# Altium integrated library Linear Technology Power Management Battery Management.IntLib: 626 symbols (part 6 of 56)
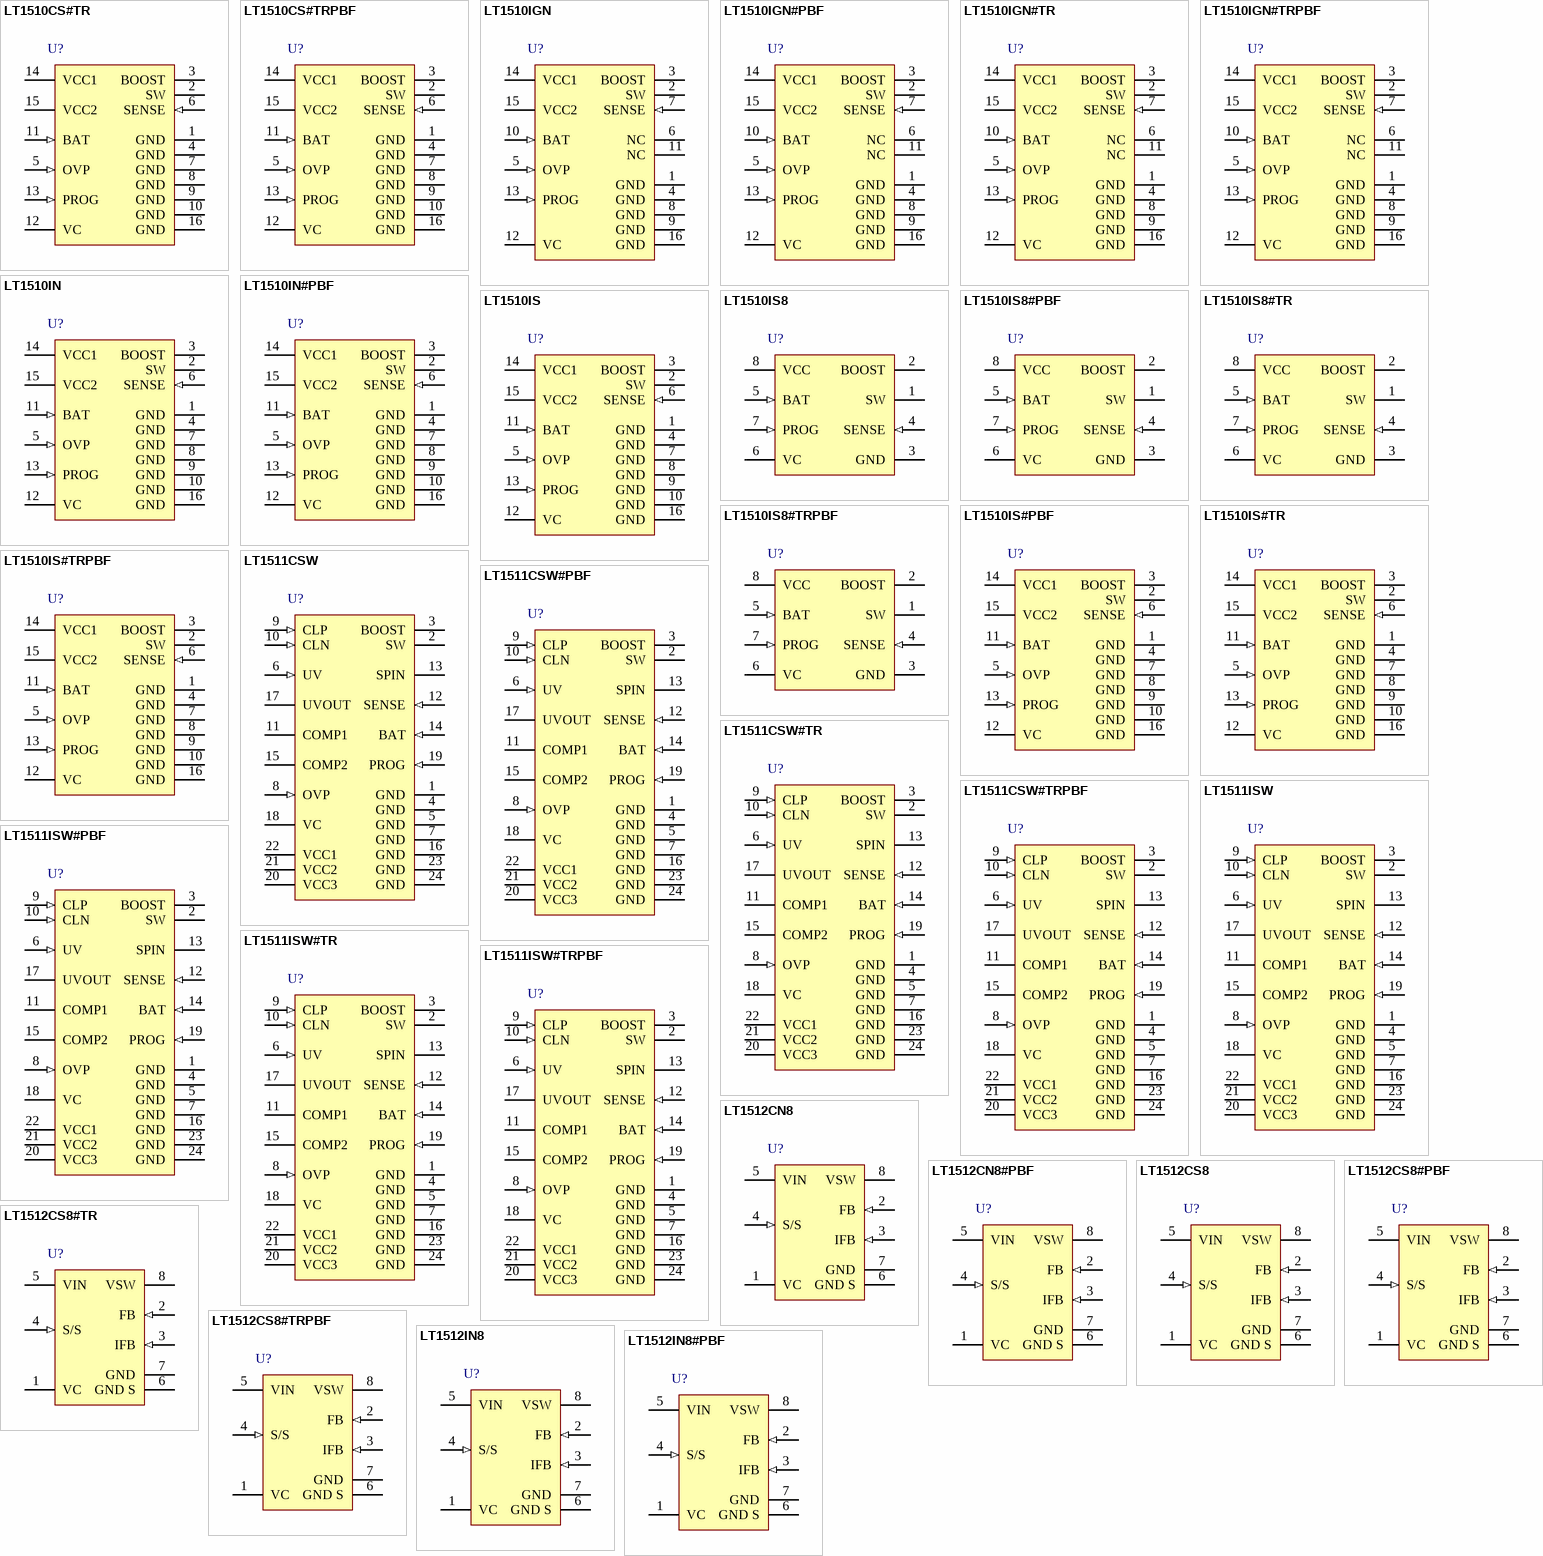
[diagram p27: symbols LT1510CS#TR to LT1512IN8#PBF]

## LT1512IN8#PBF
designator U?
SEPIC Constant-Current/ Constant-Voltage Battery Charger, 2.4 to 30 V Vin, 8-pin DIP (N8-8), -40 to 85 degC, Pb-Free; Manufacturer: Linear Technology; PartNumber: LT1512IN8#PBF; Battery Chemistry: Li-Ion, Li-Polymer, NiCd, NiMH, Lead Acid; Charge Termination: External; Float Voltage: Adj; Max Charge Current(A): 0.75; Number of Cells: 1 to 4 (Li), 1 to 12 (Ni); Type of Charger: Switching, Buck-Boost; Vin Max(V): 30; Vin Min(V): 2.4; DatasheetVersion: Rev. A; PackageVersion: Rev. I, 07/2011; PackageReference: N8-8; PackageDescription: 8-Pin PDIP, Body 10.16 x 6.48 mm, Pitch 2.54 mm; Supplier 1: Digi-Key; Supplier Part Number 1: LT1512IN8#PBF-ND; RoHS: TRUE; Mounting Technology: Through Hole; ComponentLink1Description: Manufacturer URL; ComponentLink1URL: http://www.linear.com/; ComponentLink2Description: Datasheet; ComponentLink2URL: http://cds.linear.com/docs/en/datasheet/1512fa.pdf; ComponentLink3Description: Package Specification; ComponentLink3URL: http://www.linear.com/docs/en/packaging/05081510_I_N8.pdf
footprint LT-N8-8 (DIP, 8-Leads, Body 10.15x6.85mm, Pitch 2.54mm)
pins: 1 VC "The compensation pin is primarily used for frequency compensation, but it can also be used for soft starting and current limiting. It is the output of the error amplifier and the input of the current comparator. Peak switch (See Datasheet)", 2 FB (in) "The feedback pin is used for positive output voltage sensing. This pin is the inverting input to the voltage error amplifier. The R1/R2 voltage divider connected to FB defines Li-Ion float voltage at full charge, or acts as (See Datasheet)", 3 IFB (in) "The current feedback pin is used to sense charging current. It is the input to a current sense amplifier that controls charging current when the battery voltage is below the programmed voltage. During constant-current (See Datasheet)", 4 S/S (in) "This pin can be used for shutdown and/or synchronization. It is logic level compatible, but can be tied to VIN if desired. It defaults to a high ON state when floated. A logic low state will shut down the charger to a (See Datasheet)", 5 VIN (power) "The input supply pin should be bypassed with a low ESR capacitor located right next to the IC chip. The grounded end of the capacitor must be connected directly to the ground plane to which the GND pin is connected", 6 GND S (power) "The LT1512 uses separate ground pins for switch current (GND) and the control circuitry (GND S). This isolates the control ground from any induced voltage created by fast switch currents. Both pins should be tied directly to (See Datasheet)", 7 GND (power) "The LT1512 uses separate ground pins for switch current (GND) and the control circuitry (GND S). This isolates the control ground from any induced voltage created by fast switch currents. Both pins should be tied directly to (See Datasheet)", 8 VSW (power) "The switch pin is the collector of the power switch, carrying up to 1.5A of current with fast rise and fall times. Keep the traces on this pin as short as possible to minimize radiation and voltage spikes. In particular, the (See Datasheet)"

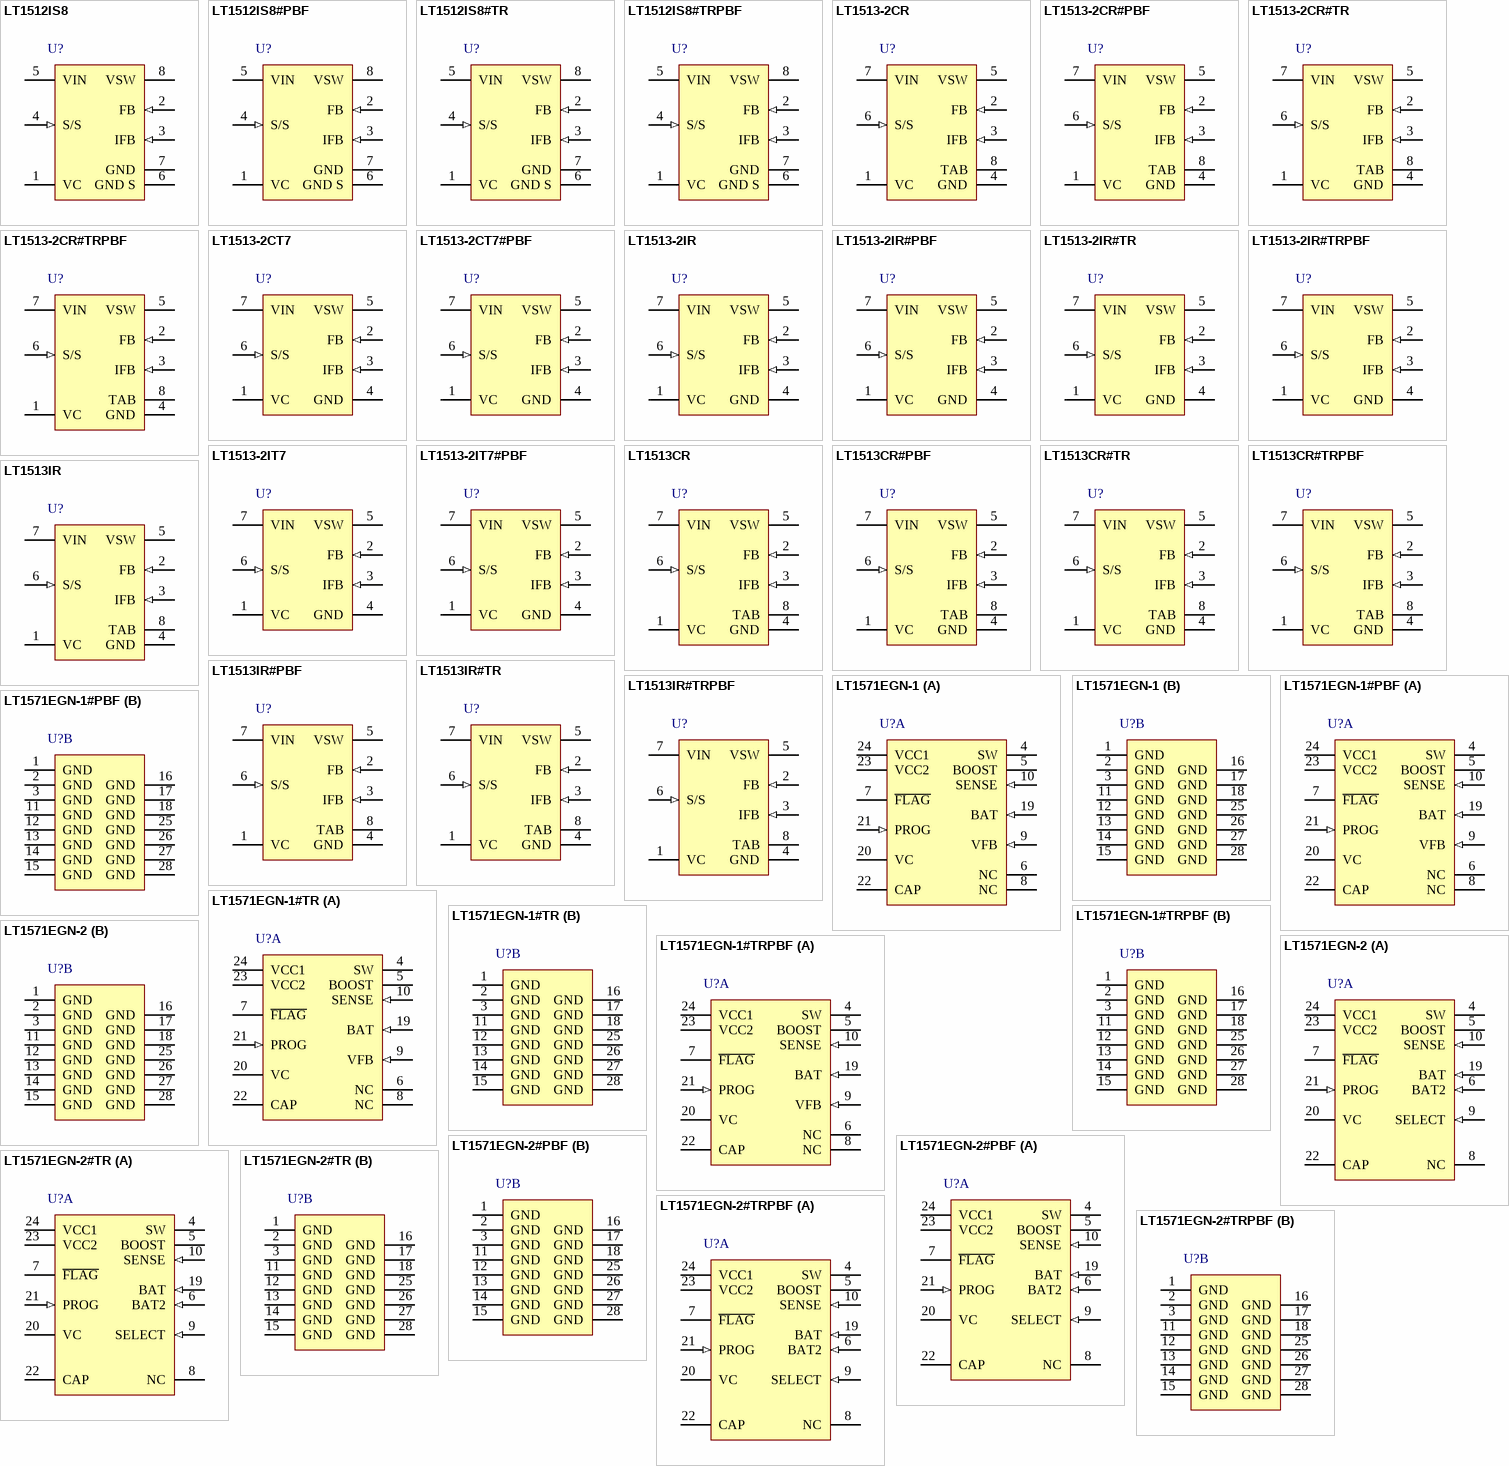
[diagram p2: symbols LT1512IS8 to LT1571EGN-2#TRPBF]

## LT1512IS8
designator U?
SEPIC Constant-Current/ Constant-Voltage Battery Charger, 2.4 to 30 V Vin, 8-pin SOIC (S8-8), -40 to 85 degC; Manufacturer: Linear Technology; PartNumber: LT1512IS8; Battery Chemistry: Li-Ion, Li-Polymer, NiCd, NiMH, Lead Acid; Charge Termination: External; Float Voltage: Adj; Max Charge Current(A): 0.75; Number of Cells: 1 to 4 (Li), 1 to 12 (Ni); Type of Charger: Switching, Buck-Boost; Vin Max(V): 30; Vin Min(V): 2.4; DatasheetVersion: Rev. A; PackageVersion: Rev. G, 03/2012; PackageReference: S8-8; PackageDescription: 8-Pin Plastic Small Outline (Narrow .150 Inch), Body 4.9 x 3.9 mm, Pitch 1.27 mm; Supplier 1: Digi-Key; Supplier Part Number 1: LT1512IS8-ND; Supplier 2: Newark; Supplier Part Number 2: 57M4713; RoHS: FALSE; Mounting Technology: Surface Mount; ComponentLink1Description: Manufacturer URL; ComponentLink1URL: http://www.linear.com/; ComponentLink2Description: Datasheet; ComponentLink2URL: http://cds.linear.com/docs/en/datasheet/1512fa.pdf; ComponentLink3Description: Package Specification; ComponentLink3URL: http://cds.linear.com/docs/en/packaging/05081610_G_SO8.pdf
footprint LT-S8-8_N (SOIC, 8-Leads, Body 5x4mm, Pitch 1.27mm, IPC Medium Density)
footprint LT-S8-8_L (SOIC, 8-Leads, Body 5x4mm, Pitch 1.27mm, IPC High Density)
footprint LT-S8-8_M (SOIC, 8-Leads, Body 5x4mm, Pitch 1.27mm, IPC Low Density)
pins: 1 VC "The compensation pin is primarily used for frequency compensation, but it can also be used for soft starting and current limiting. It is the output of the error amplifier and the input of the current comparator. Peak switch (See Datasheet)", 2 FB (in) "The feedback pin is used for positive output voltage sensing. This pin is the inverting input to the voltage error amplifier. The R1/R2 voltage divider connected to FB defines Li-Ion float voltage at full charge, or acts as (See Datasheet)", 3 IFB (in) "The current feedback pin is used to sense charging current. It is the input to a current sense amplifier that controls charging current when the battery voltage is below the programmed voltage. During constant-current (See Datasheet)", 4 S/S (in) "This pin can be used for shutdown and/or synchronization. It is logic level compatible, but can be tied to VIN if desired. It defaults to a high ON state when floated. A logic low state will shut down the charger to a (See Datasheet)", 5 VIN (power) "The input supply pin should be bypassed with a low ESR capacitor located right next to the IC chip. The grounded end of the capacitor must be connected directly to the ground plane to which the GND pin is connected", 6 GND S (power) "The LT1512 uses separate ground pins for switch current (GND) and the control circuitry (GND S). This isolates the control ground from any induced voltage created by fast switch currents. Both pins should be tied directly to (See Datasheet)", 7 GND (power) "The LT1512 uses separate ground pins for switch current (GND) and the control circuitry (GND S). This isolates the control ground from any induced voltage created by fast switch currents. Both pins should be tied directly to (See Datasheet)", 8 VSW (power) "The switch pin is the collector of the power switch, carrying up to 1.5A of current with fast rise and fall times. Keep the traces on this pin as short as possible to minimize radiation and voltage spikes. In particular, the (See Datasheet)"

## LT1512IS8#PBF
designator U?
SEPIC Constant-Current/ Constant-Voltage Battery Charger, 2.4 to 30 V Vin, 8-pin SOIC (S8-8), -40 to 85 degC, Pb-Free; Manufacturer: Linear Technology; PartNumber: LT1512IS8#PBF; Battery Chemistry: Li-Ion, Li-Polymer, NiCd, NiMH, Lead Acid; Charge Termination: External; Float Voltage: Adj; Max Charge Current(A): 0.75; Number of Cells: 1 to 4 (Li), 1 to 12 (Ni); Type of Charger: Switching, Buck-Boost; Vin Max(V): 30; Vin Min(V): 2.4; DatasheetVersion: Rev. A; PackageVersion: Rev. G, 03/2012; PackageReference: S8-8; PackageDescription: 8-Pin Plastic Small Outline (Narrow .150 Inch), Body 4.9 x 3.9 mm, Pitch 1.27 mm; Supplier 1: Digi-Key; Supplier Part Number 1: LT1512IS8#PBF-ND; Supplier 2: Farnell; Supplier Part Number 2: 2252794; Supplier 3: Newark; Supplier Part Number 3: 57M4714; RoHS: TRUE; Mounting Technology: Surface Mount; ComponentLink1Description: Manufacturer URL; ComponentLink1URL: http://www.linear.com/; ComponentLink2Description: Datasheet; ComponentLink2URL: http://cds.linear.com/docs/en/datasheet/1512fa.pdf; ComponentLink3Description: Package Specification; ComponentLink3URL: http://cds.linear.com/docs/en/packaging/05081610_G_SO8.pdf
footprint LT-S8-8_N (SOIC, 8-Leads, Body 5x4mm, Pitch 1.27mm, IPC Medium Density)
footprint LT-S8-8_L (SOIC, 8-Leads, Body 5x4mm, Pitch 1.27mm, IPC High Density)
footprint LT-S8-8_M (SOIC, 8-Leads, Body 5x4mm, Pitch 1.27mm, IPC Low Density)
pins: 1 VC "The compensation pin is primarily used for frequency compensation, but it can also be used for soft starting and current limiting. It is the output of the error amplifier and the input of the current comparator. Peak switch (See Datasheet)", 2 FB (in) "The feedback pin is used for positive output voltage sensing. This pin is the inverting input to the voltage error amplifier. The R1/R2 voltage divider connected to FB defines Li-Ion float voltage at full charge, or acts as (See Datasheet)", 3 IFB (in) "The current feedback pin is used to sense charging current. It is the input to a current sense amplifier that controls charging current when the battery voltage is below the programmed voltage. During constant-current (See Datasheet)", 4 S/S (in) "This pin can be used for shutdown and/or synchronization. It is logic level compatible, but can be tied to VIN if desired. It defaults to a high ON state when floated. A logic low state will shut down the charger to a (See Datasheet)", 5 VIN (power) "The input supply pin should be bypassed with a low ESR capacitor located right next to the IC chip. The grounded end of the capacitor must be connected directly to the ground plane to which the GND pin is connected", 6 GND S (power) "The LT1512 uses separate ground pins for switch current (GND) and the control circuitry (GND S). This isolates the control ground from any induced voltage created by fast switch currents. Both pins should be tied directly to (See Datasheet)", 7 GND (power) "The LT1512 uses separate ground pins for switch current (GND) and the control circuitry (GND S). This isolates the control ground from any induced voltage created by fast switch currents. Both pins should be tied directly to (See Datasheet)", 8 VSW (power) "The switch pin is the collector of the power switch, carrying up to 1.5A of current with fast rise and fall times. Keep the traces on this pin as short as possible to minimize radiation and voltage spikes. In particular, the (See Datasheet)"

## LT1512IS8#TR
designator U?
SEPIC Constant-Current/ Constant-Voltage Battery Charger, 2.4 to 30 V Vin, 8-pin SOIC (S8-8), -40 to 85 degC, Tape and Reel; Manufacturer: Linear Technology; PartNumber: LT1512IS8#TR; Battery Chemistry: Li-Ion, Li-Polymer, NiCd, NiMH, Lead Acid; Charge Termination: External; Float Voltage: Adj; Max Charge Current(A): 0.75; Number of Cells: 1 to 4 (Li), 1 to 12 (Ni); Type of Charger: Switching, Buck-Boost; Vin Max(V): 30; Vin Min(V): 2.4; DatasheetVersion: Rev. A; PackageVersion: Rev. G, 03/2012; PackageReference: S8-8; PackageDescription: 8-Pin Plastic Small Outline (Narrow .150 Inch), Body 4.9 x 3.9 mm, Pitch 1.27 mm; Supplier 1: Digi-Key; Supplier Part Number 1: LT1512IS8#TR-ND; Packing: Tape and Reel; RoHS: FALSE; Mounting Technology: Surface Mount; ComponentLink1Description: Manufacturer URL; ComponentLink1URL: http://www.linear.com/; ComponentLink2Description: Datasheet; ComponentLink2URL: http://cds.linear.com/docs/en/datasheet/1512fa.pdf; ComponentLink3Description: Package Specification; ComponentLink3URL: http://cds.linear.com/docs/en/packaging/05081610_G_SO8.pdf
footprint LT-S8-8_N (SOIC, 8-Leads, Body 5x4mm, Pitch 1.27mm, IPC Medium Density)
footprint LT-S8-8_L (SOIC, 8-Leads, Body 5x4mm, Pitch 1.27mm, IPC High Density)
footprint LT-S8-8_M (SOIC, 8-Leads, Body 5x4mm, Pitch 1.27mm, IPC Low Density)
pins: 1 VC "The compensation pin is primarily used for frequency compensation, but it can also be used for soft starting and current limiting. It is the output of the error amplifier and the input of the current comparator. Peak switch (See Datasheet)", 2 FB (in) "The feedback pin is used for positive output voltage sensing. This pin is the inverting input to the voltage error amplifier. The R1/R2 voltage divider connected to FB defines Li-Ion float voltage at full charge, or acts as (See Datasheet)", 3 IFB (in) "The current feedback pin is used to sense charging current. It is the input to a current sense amplifier that controls charging current when the battery voltage is below the programmed voltage. During constant-current (See Datasheet)", 4 S/S (in) "This pin can be used for shutdown and/or synchronization. It is logic level compatible, but can be tied to VIN if desired. It defaults to a high ON state when floated. A logic low state will shut down the charger to a (See Datasheet)", 5 VIN (power) "The input supply pin should be bypassed with a low ESR capacitor located right next to the IC chip. The grounded end of the capacitor must be connected directly to the ground plane to which the GND pin is connected", 6 GND S (power) "The LT1512 uses separate ground pins for switch current (GND) and the control circuitry (GND S). This isolates the control ground from any induced voltage created by fast switch currents. Both pins should be tied directly to (See Datasheet)", 7 GND (power) "The LT1512 uses separate ground pins for switch current (GND) and the control circuitry (GND S). This isolates the control ground from any induced voltage created by fast switch currents. Both pins should be tied directly to (See Datasheet)", 8 VSW (power) "The switch pin is the collector of the power switch, carrying up to 1.5A of current with fast rise and fall times. Keep the traces on this pin as short as possible to minimize radiation and voltage spikes. In particular, the (See Datasheet)"

## LT1512IS8#TRPBF
designator U?
SEPIC Constant-Current/ Constant-Voltage Battery Charger, 2.4 to 30 V Vin, 8-pin SOIC (S8-8), -40 to 85 degC, Pb-Free, Tape and Reel; Manufacturer: Linear Technology; PartNumber: LT1512IS8#TRPBF; Battery Chemistry: Li-Ion, Li-Polymer, NiCd, NiMH, Lead Acid; Charge Termination: External; Float Voltage: Adj; Max Charge Current(A): 0.75; Number of Cells: 1 to 4 (Li), 1 to 12 (Ni); Type of Charger: Switching, Buck-Boost; Vin Max(V): 30; Vin Min(V): 2.4; DatasheetVersion: Rev. A; PackageVersion: Rev. G, 03/2012; PackageReference: S8-8; PackageDescription: 8-Pin Plastic Small Outline (Narrow .150 Inch), Body 4.9 x 3.9 mm, Pitch 1.27 mm; Supplier 1: Digi-Key; Supplier Part Number 1: LT1512IS8#TRPBF-ND; Packing: Tape and Reel; RoHS: TRUE; Mounting Technology: Surface Mount; ComponentLink1Description: Manufacturer URL; ComponentLink1URL: http://www.linear.com/; ComponentLink2Description: Datasheet; ComponentLink2URL: http://cds.linear.com/docs/en/datasheet/1512fa.pdf; ComponentLink3Description: Package Specification; ComponentLink3URL: http://cds.linear.com/docs/en/packaging/05081610_G_SO8.pdf
footprint LT-S8-8_N (SOIC, 8-Leads, Body 5x4mm, Pitch 1.27mm, IPC Medium Density)
footprint LT-S8-8_L (SOIC, 8-Leads, Body 5x4mm, Pitch 1.27mm, IPC High Density)
footprint LT-S8-8_M (SOIC, 8-Leads, Body 5x4mm, Pitch 1.27mm, IPC Low Density)
pins: 1 VC "The compensation pin is primarily used for frequency compensation, but it can also be used for soft starting and current limiting. It is the output of the error amplifier and the input of the current comparator. Peak switch (See Datasheet)", 2 FB (in) "The feedback pin is used for positive output voltage sensing. This pin is the inverting input to the voltage error amplifier. The R1/R2 voltage divider connected to FB defines Li-Ion float voltage at full charge, or acts as (See Datasheet)", 3 IFB (in) "The current feedback pin is used to sense charging current. It is the input to a current sense amplifier that controls charging current when the battery voltage is below the programmed voltage. During constant-current (See Datasheet)", 4 S/S (in) "This pin can be used for shutdown and/or synchronization. It is logic level compatible, but can be tied to VIN if desired. It defaults to a high ON state when floated. A logic low state will shut down the charger to a (See Datasheet)", 5 VIN (power) "The input supply pin should be bypassed with a low ESR capacitor located right next to the IC chip. The grounded end of the capacitor must be connected directly to the ground plane to which the GND pin is connected", 6 GND S (power) "The LT1512 uses separate ground pins for switch current (GND) and the control circuitry (GND S). This isolates the control ground from any induced voltage created by fast switch currents. Both pins should be tied directly to (See Datasheet)", 7 GND (power) "The LT1512 uses separate ground pins for switch current (GND) and the control circuitry (GND S). This isolates the control ground from any induced voltage created by fast switch currents. Both pins should be tied directly to (See Datasheet)", 8 VSW (power) "The switch pin is the collector of the power switch, carrying up to 1.5A of current with fast rise and fall times. Keep the traces on this pin as short as possible to minimize radiation and voltage spikes. In particular, the (See Datasheet)"

## LT1513-2CR
designator U?
SEPIC Constant or Programmable-Current / Constant-Voltage Battery Charger, 2.4 to 30 V Vin, 7-pin DPAK (R-7), 0 to 125 degC; Manufacturer: Linear Technology; PartNumber: LT1513-2CR; Battery Chemistry: Li-Ion, Li-Polymer, NiCd, NiMH, Lead Acid; Charge Termination: External; Float Voltage: Adj; Max Charge Current(A): 2; Number of Cells: 1 to 4 (Li), 1 to 18 (Ni); Type of Charger: Switching, Buck-Boost; Vin Max(V): 30; Vin Min(V): 2.4; DatasheetVersion: Rev. A; PackageVersion: Rev. F, 05/2012; PackageReference: R-7; PackageDescription: 7-Pin Plastic DD Pak, Body 10.2235 x 8.89 mm, Pitch 1.27 mm; Supplier 1: Digi-Key; Supplier Part Number 1: LT1513-2CR-ND; Supplier 2: Newark; Supplier Part Number 2: 57M4717; RoHS: FALSE; Mounting Technology: Surface Mount; ComponentLink1Description: Manufacturer URL; ComponentLink1URL: http://www.linear.com/; ComponentLink2Description: Datasheet; ComponentLink2URL: http://cds.linear.com/docs/en/datasheet/1513fas.pdf; ComponentLink3Description: Package Specification; ComponentLink3URL: http://cds.linear.com/docs/en/packaging/05081462_F_R.pdf
footprint LT-R-7_N (DPAK, 7-Leads, Body 10.224x8.89mm, Pitch 1.27mm, IPC Medium Density)
footprint LT-R-7_L (DPAK, 7-Leads, Body 10.224x8.89mm, Pitch 1.27mm, IPC High Density)
footprint LT-R-7_M (DPAK, 7-Leads, Body 10.224x8.89mm, Pitch 1.27mm, IPC Low Density)
pins: 1 VC "The compensation pin is primarily used for frequency compensation, but it can also be used for soft starting and current limiting. It is the output of the error amplifier and the input of the current comparator. Peak switch (See Datasheet)", 2 FB (in) "The feedback pin is used for positive output voltage sensing. The R1/R2 voltage divider connected to FB defines Li-Ion float voltage at full charge, or acts as a voltage limiter for NiCd or NiMH applications. FB is the (See Datasheet)", 3 IFB (in) "The current feedback pin is used to sense charging current. It is the input to a current sense amplifier that controls charging current when the battery voltage is below a programmed limit. During constant-current operation, (See Datasheet)", 4 GND (power) "The ground pin is common to both control circuitry and switch current. VC, FB and S/S signals must be Kelvin and connected as close as possible to this pin. The TAB of the R package should also be connected to the power (See Datasheet)", 5 VSW (power) "The switch pin is the collector of the power switch, carrying up to 3A of current with fast rise and fall times. Keep the traces on this pin as short as possible to minimize radiation and voltage spikes. In particular, the (See Datasheet)", 6 S/S (in) "This pin can be used for shutdown and/or synchronization. It is logic level compatible, but can be tied to VIN if desired. It defaults to a high ON state when floated. A logic low state will shut down the charger to a (See Datasheet)", 7 VIN (power) "The input supply pin should be bypassed with a low ESR capacitor located right next to the IC chip. The grounded end of the capacitor must be connected directly to the ground plane to which the TAB is connected.", 8 TAB (power) "The TAB on the surface mount R package is electrically connected to the ground pin, but a low inductance connection must be made to both the TAB and the pin for proper circuit operation. See suggested PC layout in Figure 4."

## LT1513-2CR#PBF
designator U?
SEPIC Constant or Programmable-Current / Constant-Voltage Battery Charger, 2.4 to 30 V Vin, 7-pin DPAK (R-7), 0 to 125 degC, Pb-Free; Manufacturer: Linear Technology; PartNumber: LT1513-2CR#PBF; Battery Chemistry: Li-Ion, Li-Polymer, NiCd, NiMH, Lead Acid; Charge Termination: External; Float Voltage: Adj; Max Charge Current(A): 2; Number of Cells: 1 to 4 (Li), 1 to 18 (Ni); Type of Charger: Switching, Buck-Boost; Vin Max(V): 30; Vin Min(V): 2.4; DatasheetVersion: Rev. A; PackageVersion: Rev. F, 05/2012; PackageReference: R-7; PackageDescription: 7-Pin Plastic DD Pak, Body 10.2235 x 8.89 mm, Pitch 1.27 mm; Supplier 1: Digi-Key; Supplier Part Number 1: LT1513-2CR#PBF-ND; Supplier 2: Farnell; Supplier Part Number 2: 1648008; Supplier 3: Newark; Supplier Part Number 3: 57M4718; RoHS: TRUE; Mounting Technology: Surface Mount; ComponentLink1Description: Manufacturer URL; ComponentLink1URL: http://www.linear.com/; ComponentLink2Description: Datasheet; ComponentLink2URL: http://cds.linear.com/docs/en/datasheet/1513fas.pdf; ComponentLink3Description: Package Specification; ComponentLink3URL: http://cds.linear.com/docs/en/packaging/05081462_F_R.pdf
footprint LT-R-7_N (DPAK, 7-Leads, Body 10.224x8.89mm, Pitch 1.27mm, IPC Medium Density)
footprint LT-R-7_L (DPAK, 7-Leads, Body 10.224x8.89mm, Pitch 1.27mm, IPC High Density)
footprint LT-R-7_M (DPAK, 7-Leads, Body 10.224x8.89mm, Pitch 1.27mm, IPC Low Density)
pins: 1 VC "The compensation pin is primarily used for frequency compensation, but it can also be used for soft starting and current limiting. It is the output of the error amplifier and the input of the current comparator. Peak switch (See Datasheet)", 2 FB (in) "The feedback pin is used for positive output voltage sensing. The R1/R2 voltage divider connected to FB defines Li-Ion float voltage at full charge, or acts as a voltage limiter for NiCd or NiMH applications. FB is the (See Datasheet)", 3 IFB (in) "The current feedback pin is used to sense charging current. It is the input to a current sense amplifier that controls charging current when the battery voltage is below a programmed limit. During constant-current operation, (See Datasheet)", 4 GND (power) "The ground pin is common to both control circuitry and switch current. VC, FB and S/S signals must be Kelvin and connected as close as possible to this pin. The TAB of the R package should also be connected to the power (See Datasheet)", 5 VSW (power) "The switch pin is the collector of the power switch, carrying up to 3A of current with fast rise and fall times. Keep the traces on this pin as short as possible to minimize radiation and voltage spikes. In particular, the (See Datasheet)", 6 S/S (in) "This pin can be used for shutdown and/or synchronization. It is logic level compatible, but can be tied to VIN if desired. It defaults to a high ON state when floated. A logic low state will shut down the charger to a (See Datasheet)", 7 VIN (power) "The input supply pin should be bypassed with a low ESR capacitor located right next to the IC chip. The grounded end of the capacitor must be connected directly to the ground plane to which the TAB is connected.", 8 TAB (power) "The TAB on the surface mount R package is electrically connected to the ground pin, but a low inductance connection must be made to both the TAB and the pin for proper circuit operation. See suggested PC layout in Figure 4."

## LT1513-2CR#TR
designator U?
SEPIC Constant or Programmable-Current / Constant-Voltage Battery Charger, 2.4 to 30 V Vin, 7-pin DPAK (R-7), 0 to 125 degC, Tape and Reel; Manufacturer: Linear Technology; PartNumber: LT1513-2CR#TR; Battery Chemistry: Li-Ion, Li-Polymer, NiCd, NiMH, Lead Acid; Charge Termination: External; Float Voltage: Adj; Max Charge Current(A): 2; Number of Cells: 1 to 4 (Li), 1 to 18 (Ni); Type of Charger: Switching, Buck-Boost; Vin Max(V): 30; Vin Min(V): 2.4; DatasheetVersion: Rev. A; PackageVersion: Rev. F, 05/2012; PackageReference: R-7; PackageDescription: 7-Pin Plastic DD Pak, Body 10.2235 x 8.89 mm, Pitch 1.27 mm; Supplier 1: Digi-Key; Supplier Part Number 1: LT1513-2CR#TR-ND; Packing: Tape and Reel; RoHS: FALSE; Mounting Technology: Surface Mount; ComponentLink1Description: Manufacturer URL; ComponentLink1URL: http://www.linear.com/; ComponentLink2Description: Datasheet; ComponentLink2URL: http://cds.linear.com/docs/en/datasheet/1513fas.pdf; ComponentLink3Description: Package Specification; ComponentLink3URL: http://cds.linear.com/docs/en/packaging/05081462_F_R.pdf
footprint LT-R-7_N (DPAK, 7-Leads, Body 10.224x8.89mm, Pitch 1.27mm, IPC Medium Density)
footprint LT-R-7_L (DPAK, 7-Leads, Body 10.224x8.89mm, Pitch 1.27mm, IPC High Density)
footprint LT-R-7_M (DPAK, 7-Leads, Body 10.224x8.89mm, Pitch 1.27mm, IPC Low Density)
pins: 1 VC "The compensation pin is primarily used for frequency compensation, but it can also be used for soft starting and current limiting. It is the output of the error amplifier and the input of the current comparator. Peak switch (See Datasheet)", 2 FB (in) "The feedback pin is used for positive output voltage sensing. The R1/R2 voltage divider connected to FB defines Li-Ion float voltage at full charge, or acts as a voltage limiter for NiCd or NiMH applications. FB is the (See Datasheet)", 3 IFB (in) "The current feedback pin is used to sense charging current. It is the input to a current sense amplifier that controls charging current when the battery voltage is below a programmed limit. During constant-current operation, (See Datasheet)", 4 GND (power) "The ground pin is common to both control circuitry and switch current. VC, FB and S/S signals must be Kelvin and connected as close as possible to this pin. The TAB of the R package should also be connected to the power (See Datasheet)", 5 VSW (power) "The switch pin is the collector of the power switch, carrying up to 3A of current with fast rise and fall times. Keep the traces on this pin as short as possible to minimize radiation and voltage spikes. In particular, the (See Datasheet)", 6 S/S (in) "This pin can be used for shutdown and/or synchronization. It is logic level compatible, but can be tied to VIN if desired. It defaults to a high ON state when floated. A logic low state will shut down the charger to a (See Datasheet)", 7 VIN (power) "The input supply pin should be bypassed with a low ESR capacitor located right next to the IC chip. The grounded end of the capacitor must be connected directly to the ground plane to which the TAB is connected.", 8 TAB (power) "The TAB on the surface mount R package is electrically connected to the ground pin, but a low inductance connection must be made to both the TAB and the pin for proper circuit operation. See suggested PC layout in Figure 4."

## LT1513-2CR#TRPBF
designator U?
SEPIC Constant or Programmable-Current / Constant-Voltage Battery Charger, 2.4 to 30 V Vin, 7-pin DPAK (R-7), 0 to 125 degC, Pb-Free, Tape and Reel; Manufacturer: Linear Technology; PartNumber: LT1513-2CR#TRPBF; Battery Chemistry: Li-Ion, Li-Polymer, NiCd, NiMH, Lead Acid; Charge Termination: External; Float Voltage: Adj; Max Charge Current(A): 2; Number of Cells: 1 to 4 (Li), 1 to 18 (Ni); Type of Charger: Switching, Buck-Boost; Vin Max(V): 30; Vin Min(V): 2.4; DatasheetVersion: Rev. A; PackageVersion: Rev. F, 05/2012; PackageReference: R-7; PackageDescription: 7-Pin Plastic DD Pak, Body 10.2235 x 8.89 mm, Pitch 1.27 mm; Supplier 1: Digi-Key; Supplier Part Number 1: LT1513-2CR#TRPBF-ND; Packing: Tape and Reel; RoHS: TRUE; Mounting Technology: Surface Mount; ComponentLink1Description: Manufacturer URL; ComponentLink1URL: http://www.linear.com/; ComponentLink2Description: Datasheet; ComponentLink2URL: http://cds.linear.com/docs/en/datasheet/1513fas.pdf; ComponentLink3Description: Package Specification; ComponentLink3URL: http://cds.linear.com/docs/en/packaging/05081462_F_R.pdf
footprint LT-R-7_N (DPAK, 7-Leads, Body 10.224x8.89mm, Pitch 1.27mm, IPC Medium Density)
footprint LT-R-7_L (DPAK, 7-Leads, Body 10.224x8.89mm, Pitch 1.27mm, IPC High Density)
footprint LT-R-7_M (DPAK, 7-Leads, Body 10.224x8.89mm, Pitch 1.27mm, IPC Low Density)
pins: 1 VC "The compensation pin is primarily used for frequency compensation, but it can also be used for soft starting and current limiting. It is the output of the error amplifier and the input of the current comparator. Peak switch (See Datasheet)", 2 FB (in) "The feedback pin is used for positive output voltage sensing. The R1/R2 voltage divider connected to FB defines Li-Ion float voltage at full charge, or acts as a voltage limiter for NiCd or NiMH applications. FB is the (See Datasheet)", 3 IFB (in) "The current feedback pin is used to sense charging current. It is the input to a current sense amplifier that controls charging current when the battery voltage is below a programmed limit. During constant-current operation, (See Datasheet)", 4 GND (power) "The ground pin is common to both control circuitry and switch current. VC, FB and S/S signals must be Kelvin and connected as close as possible to this pin. The TAB of the R package should also be connected to the power (See Datasheet)", 5 VSW (power) "The switch pin is the collector of the power switch, carrying up to 3A of current with fast rise and fall times. Keep the traces on this pin as short as possible to minimize radiation and voltage spikes. In particular, the (See Datasheet)", 6 S/S (in) "This pin can be used for shutdown and/or synchronization. It is logic level compatible, but can be tied to VIN if desired. It defaults to a high ON state when floated. A logic low state will shut down the charger to a (See Datasheet)", 7 VIN (power) "The input supply pin should be bypassed with a low ESR capacitor located right next to the IC chip. The grounded end of the capacitor must be connected directly to the ground plane to which the TAB is connected.", 8 TAB (power) "The TAB on the surface mount R package is electrically connected to the ground pin, but a low inductance connection must be made to both the TAB and the pin for proper circuit operation. See suggested PC layout in Figure 4."

## LT1513-2CT7
designator U?
SEPIC Constant or Programmable-Current / Constant-Voltage Battery Charger, 2.4 to 30 V Vin, 7-pin FM (T7-7), 0 to 125 degC; Manufacturer: Linear Technology; PartNumber: LT1513-2CT7; Battery Chemistry: Li-Ion, Li-Polymer, NiCd, NiMH, Lead Acid; Charge Termination: External; Float Voltage: Adj; Max Charge Current(A): 2; Number of Cells: 1 to 4 (Li), 1 to 18 (Ni); Type of Charger: Switching, Buck-Boost; Vin Max(V): 30; Vin Min(V): 2.4; DatasheetVersion: Rev. A; PackageReference: T7-7; PackageDescription: 7-Pin Plastic TO-220, Body 10.2235 x 4.3815 mm, Pitch 1.27 mm; Supplier 1: Digi-Key; Supplier Part Number 1: LT1513-2CT7-ND; RoHS: FALSE; Mounting Technology: Through Hole; ComponentLink1Description: Manufacturer URL; ComponentLink1URL: http://www.linear.com/; ComponentLink2Description: Datasheet; ComponentLink2URL: http://cds.linear.com/docs/en/datasheet/1513fas.pdf; ComponentLink3Description: Package Specification; ComponentLink3URL: http://cds.linear.com/docs/en/datasheet/1513fas.pdf
footprint LT-T7-7-SD (FM, 7-Leads, Body 10.55x4.6mm, Pitch 1.27mm)
pins: 1 VC "The compensation pin is primarily used for frequency compensation, but it can also be used for soft starting and current limiting. It is the output of the error amplifier and the input of the current comparator. Peak switch (See Datasheet)", 2 FB (in) "The feedback pin is used for positive output voltage sensing. The R1/R2 voltage divider connected to FB defines Li-Ion float voltage at full charge, or acts as a voltage limiter for NiCd or NiMH applications. FB is the (See Datasheet)", 3 IFB (in) "The current feedback pin is used to sense charging current. It is the input to a current sense amplifier that controls charging current when the battery voltage is below a programmed limit. During constant-current operation, (See Datasheet)", 4 GND (power) "The ground pin is common to both control circuitry and switch current. VC, FB and S/S signals must be Kelvin and connected as close as possible to this pin. The TAB of the R package should also be connected to the power (See Datasheet)", 5 VSW (power) "The switch pin is the collector of the power switch, carrying up to 3A of current with fast rise and fall times. Keep the traces on this pin as short as possible to minimize radiation and voltage spikes. In particular, the (See Datasheet)", 6 S/S (in) "This pin can be used for shutdown and/or synchronization. It is logic level compatible, but can be tied to VIN if desired. It defaults to a high ON state when floated. A logic low state will shut down the charger to a (See Datasheet)", 7 VIN (power) "The input supply pin should be bypassed with a low ESR capacitor located right next to the IC chip. The grounded end of the capacitor must be connected directly to the ground plane to which the TAB is connected."

## LT1513-2CT7#PBF
designator U?
SEPIC Constant or Programmable-Current / Constant-Voltage Battery Charger, 2.4 to 30 V Vin, 7-pin FM (T7-7), 0 to 125 degC, Pb-Free; Manufacturer: Linear Technology; PartNumber: LT1513-2CT7#PBF; Battery Chemistry: Li-Ion, Li-Polymer, NiCd, NiMH, Lead Acid; Charge Termination: External; Float Voltage: Adj; Max Charge Current(A): 2; Number of Cells: 1 to 4 (Li), 1 to 18 (Ni); Type of Charger: Switching, Buck-Boost; Vin Max(V): 30; Vin Min(V): 2.4; DatasheetVersion: Rev. A; PackageReference: T7-7; PackageDescription: 7-Pin Plastic TO-220, Body 10.2235 x 4.3815 mm, Pitch 1.27 mm; Supplier 1: Digi-Key; Supplier Part Number 1: LT1513-2CT7#PBF-ND; Supplier 2: Farnell; Supplier Part Number 2: 1627547; Supplier 3: Newark; Supplier Part Number 3: 57M4722; RoHS: TRUE; Mounting Technology: Through Hole; ComponentLink1Description: Manufacturer URL; ComponentLink1URL: http://www.linear.com/; ComponentLink2Description: Datasheet; ComponentLink2URL: http://cds.linear.com/docs/en/datasheet/1513fas.pdf; ComponentLink3Description: Package Specification; ComponentLink3URL: http://cds.linear.com/docs/en/datasheet/1513fas.pdf
footprint LT-T7-7-SD (FM, 7-Leads, Body 10.55x4.6mm, Pitch 1.27mm)
pins: 1 VC "The compensation pin is primarily used for frequency compensation, but it can also be used for soft starting and current limiting. It is the output of the error amplifier and the input of the current comparator. Peak switch (See Datasheet)", 2 FB (in) "The feedback pin is used for positive output voltage sensing. The R1/R2 voltage divider connected to FB defines Li-Ion float voltage at full charge, or acts as a voltage limiter for NiCd or NiMH applications. FB is the (See Datasheet)", 3 IFB (in) "The current feedback pin is used to sense charging current. It is the input to a current sense amplifier that controls charging current when the battery voltage is below a programmed limit. During constant-current operation, (See Datasheet)", 4 GND (power) "The ground pin is common to both control circuitry and switch current. VC, FB and S/S signals must be Kelvin and connected as close as possible to this pin. The TAB of the R package should also be connected to the power (See Datasheet)", 5 VSW (power) "The switch pin is the collector of the power switch, carrying up to 3A of current with fast rise and fall times. Keep the traces on this pin as short as possible to minimize radiation and voltage spikes. In particular, the (See Datasheet)", 6 S/S (in) "This pin can be used for shutdown and/or synchronization. It is logic level compatible, but can be tied to VIN if desired. It defaults to a high ON state when floated. A logic low state will shut down the charger to a (See Datasheet)", 7 VIN (power) "The input supply pin should be bypassed with a low ESR capacitor located right next to the IC chip. The grounded end of the capacitor must be connected directly to the ground plane to which the TAB is connected."

## LT1513-2IR
designator U?
SEPIC Constant or Programmable-Current / Constant-Voltage Battery Charger, 2.4 to 30 V Vin, 7-pin FM (T7-7), -40 to 125 degC; Manufacturer: Linear Technology; PartNumber: LT1513-2IR; Battery Chemistry: Li-Ion, Li-Polymer, NiCd, NiMH, Lead Acid; Charge Termination: External; Float Voltage: Adj; Max Charge Current(A): 2; Number of Cells: 1 to 4 (Li), 1 to 18 (Ni); Type of Charger: Switching, Buck-Boost; Vin Max(V): 30; Vin Min(V): 2.4; DatasheetVersion: Rev. A; PackageReference: T7-7; PackageDescription: 7-Pin Plastic TO-220, Body 10.2235 x 4.3815 mm, Pitch 1.27 mm; Supplier 1: Digi-Key; Supplier Part Number 1: LT1513-2IR-ND; Supplier 2: Newark; Supplier Part Number 2: 57M4723; RoHS: FALSE; Mounting Technology: Through Hole; ComponentLink1Description: Manufacturer URL; ComponentLink1URL: http://www.linear.com/; ComponentLink2Description: Datasheet; ComponentLink2URL: http://cds.linear.com/docs/en/datasheet/1513fas.pdf; ComponentLink3Description: Package Specification; ComponentLink3URL: http://cds.linear.com/docs/en/datasheet/1513fas.pdf
footprint LT-T7-7-SD (FM, 7-Leads, Body 10.55x4.6mm, Pitch 1.27mm)
pins: 1 VC "The compensation pin is primarily used for frequency compensation, but it can also be used for soft starting and current limiting. It is the output of the error amplifier and the input of the current comparator. Peak switch (See Datasheet)", 2 FB (in) "The feedback pin is used for positive output voltage sensing. The R1/R2 voltage divider connected to FB defines Li-Ion float voltage at full charge, or acts as a voltage limiter for NiCd or NiMH applications. FB is the (See Datasheet)", 3 IFB (in) "The current feedback pin is used to sense charging current. It is the input to a current sense amplifier that controls charging current when the battery voltage is below a programmed limit. During constant-current operation, (See Datasheet)", 4 GND (power) "The ground pin is common to both control circuitry and switch current. VC, FB and S/S signals must be Kelvin and connected as close as possible to this pin. The TAB of the R package should also be connected to the power (See Datasheet)", 5 VSW (power) "The switch pin is the collector of the power switch, carrying up to 3A of current with fast rise and fall times. Keep the traces on this pin as short as possible to minimize radiation and voltage spikes. In particular, the (See Datasheet)", 6 S/S (in) "This pin can be used for shutdown and/or synchronization. It is logic level compatible, but can be tied to VIN if desired. It defaults to a high ON state when floated. A logic low state will shut down the charger to a (See Datasheet)", 7 VIN (power) "The input supply pin should be bypassed with a low ESR capacitor located right next to the IC chip. The grounded end of the capacitor must be connected directly to the ground plane to which the TAB is connected."

## LT1513-2IR#PBF
designator U?
SEPIC Constant or Programmable-Current / Constant-Voltage Battery Charger, 2.4 to 30 V Vin, 7-pin FM (T7-7), -40 to 125 degC, Pb-Free; Manufacturer: Linear Technology; PartNumber: LT1513-2IR#PBF; Battery Chemistry: Li-Ion, Li-Polymer, NiCd, NiMH, Lead Acid; Charge Termination: External; Float Voltage: Adj; Max Charge Current(A): 2; Number of Cells: 1 to 4 (Li), 1 to 18 (Ni); Type of Charger: Switching, Buck-Boost; Vin Max(V): 30; Vin Min(V): 2.4; DatasheetVersion: Rev. A; PackageReference: T7-7; PackageDescription: 7-Pin Plastic TO-220, Body 10.2235 x 4.3815 mm, Pitch 1.27 mm; Supplier 1: Digi-Key; Supplier Part Number 1: LT1513-2IR#PBF-ND; Supplier 2: Farnell; Supplier Part Number 2: 2295364; Supplier 3: Newark; Supplier Part Number 3: 57M4724; RoHS: TRUE; Mounting Technology: Through Hole; ComponentLink1Description: Manufacturer URL; ComponentLink1URL: http://www.linear.com/; ComponentLink2Description: Datasheet; ComponentLink2URL: http://cds.linear.com/docs/en/datasheet/1513fas.pdf; ComponentLink3Description: Package Specification; ComponentLink3URL: http://cds.linear.com/docs/en/datasheet/1513fas.pdf
footprint LT-T7-7-SD (FM, 7-Leads, Body 10.55x4.6mm, Pitch 1.27mm)
pins: 1 VC "The compensation pin is primarily used for frequency compensation, but it can also be used for soft starting and current limiting. It is the output of the error amplifier and the input of the current comparator. Peak switch (See Datasheet)", 2 FB (in) "The feedback pin is used for positive output voltage sensing. The R1/R2 voltage divider connected to FB defines Li-Ion float voltage at full charge, or acts as a voltage limiter for NiCd or NiMH applications. FB is the (See Datasheet)", 3 IFB (in) "The current feedback pin is used to sense charging current. It is the input to a current sense amplifier that controls charging current when the battery voltage is below a programmed limit. During constant-current operation, (See Datasheet)", 4 GND (power) "The ground pin is common to both control circuitry and switch current. VC, FB and S/S signals must be Kelvin and connected as close as possible to this pin. The TAB of the R package should also be connected to the power (See Datasheet)", 5 VSW (power) "The switch pin is the collector of the power switch, carrying up to 3A of current with fast rise and fall times. Keep the traces on this pin as short as possible to minimize radiation and voltage spikes. In particular, the (See Datasheet)", 6 S/S (in) "This pin can be used for shutdown and/or synchronization. It is logic level compatible, but can be tied to VIN if desired. It defaults to a high ON state when floated. A logic low state will shut down the charger to a (See Datasheet)", 7 VIN (power) "The input supply pin should be bypassed with a low ESR capacitor located right next to the IC chip. The grounded end of the capacitor must be connected directly to the ground plane to which the TAB is connected."

## LT1513-2IR#TR
designator U?
SEPIC Constant or Programmable-Current / Constant-Voltage Battery Charger, 2.4 to 30 V Vin, 7-pin FM (T7-7), -40 to 125 degC, Tape and Reel; Manufacturer: Linear Technology; PartNumber: LT1513-2IR#TR; Battery Chemistry: Li-Ion, Li-Polymer, NiCd, NiMH, Lead Acid; Charge Termination: External; Float Voltage: Adj; Max Charge Current(A): 2; Number of Cells: 1 to 4 (Li), 1 to 18 (Ni); Type of Charger: Switching, Buck-Boost; Vin Max(V): 30; Vin Min(V): 2.4; DatasheetVersion: Rev. A; PackageReference: T7-7; PackageDescription: 7-Pin Plastic TO-220, Body 10.2235 x 4.3815 mm, Pitch 1.27 mm; Supplier 1: Digi-Key; Supplier Part Number 1: LT1513-2IR#TR-ND; Packing: Tape and Reel; RoHS: FALSE; Mounting Technology: Through Hole; ComponentLink1Description: Manufacturer URL; ComponentLink1URL: http://www.linear.com/; ComponentLink2Description: Datasheet; ComponentLink2URL: http://cds.linear.com/docs/en/datasheet/1513fas.pdf; ComponentLink3Description: Package Specification; ComponentLink3URL: http://cds.linear.com/docs/en/datasheet/1513fas.pdf
footprint LT-T7-7-SD (FM, 7-Leads, Body 10.55x4.6mm, Pitch 1.27mm)
pins: 1 VC "The compensation pin is primarily used for frequency compensation, but it can also be used for soft starting and current limiting. It is the output of the error amplifier and the input of the current comparator. Peak switch (See Datasheet)", 2 FB (in) "The feedback pin is used for positive output voltage sensing. The R1/R2 voltage divider connected to FB defines Li-Ion float voltage at full charge, or acts as a voltage limiter for NiCd or NiMH applications. FB is the (See Datasheet)", 3 IFB (in) "The current feedback pin is used to sense charging current. It is the input to a current sense amplifier that controls charging current when the battery voltage is below a programmed limit. During constant-current operation, (See Datasheet)", 4 GND (power) "The ground pin is common to both control circuitry and switch current. VC, FB and S/S signals must be Kelvin and connected as close as possible to this pin. The TAB of the R package should also be connected to the power (See Datasheet)", 5 VSW (power) "The switch pin is the collector of the power switch, carrying up to 3A of current with fast rise and fall times. Keep the traces on this pin as short as possible to minimize radiation and voltage spikes. In particular, the (See Datasheet)", 6 S/S (in) "This pin can be used for shutdown and/or synchronization. It is logic level compatible, but can be tied to VIN if desired. It defaults to a high ON state when floated. A logic low state will shut down the charger to a (See Datasheet)", 7 VIN (power) "The input supply pin should be bypassed with a low ESR capacitor located right next to the IC chip. The grounded end of the capacitor must be connected directly to the ground plane to which the TAB is connected."

## LT1513-2IR#TRPBF
designator U?
SEPIC Constant or Programmable-Current / Constant-Voltage Battery Charger, 2.4 to 30 V Vin, 7-pin FM (T7-7), -40 to 125 degC, Pb-Free, Tape and Reel; Manufacturer: Linear Technology; PartNumber: LT1513-2IR#TRPBF; Battery Chemistry: Li-Ion, Li-Polymer, NiCd, NiMH, Lead Acid; Charge Termination: External; Float Voltage: Adj; Max Charge Current(A): 2; Number of Cells: 1 to 4 (Li), 1 to 18 (Ni); Type of Charger: Switching, Buck-Boost; Vin Max(V): 30; Vin Min(V): 2.4; DatasheetVersion: Rev. A; PackageReference: T7-7; PackageDescription: 7-Pin Plastic TO-220, Body 10.2235 x 4.3815 mm, Pitch 1.27 mm; Supplier 1: Digi-Key; Supplier Part Number 1: LT1513-2IR#TRPBF-ND; Packing: Tape and Reel; RoHS: TRUE; Mounting Technology: Through Hole; ComponentLink1Description: Manufacturer URL; ComponentLink1URL: http://www.linear.com/; ComponentLink2Description: Datasheet; ComponentLink2URL: http://cds.linear.com/docs/en/datasheet/1513fas.pdf; ComponentLink3Description: Package Specification; ComponentLink3URL: http://cds.linear.com/docs/en/datasheet/1513fas.pdf
footprint LT-T7-7-SD (FM, 7-Leads, Body 10.55x4.6mm, Pitch 1.27mm)
pins: 1 VC "The compensation pin is primarily used for frequency compensation, but it can also be used for soft starting and current limiting. It is the output of the error amplifier and the input of the current comparator. Peak switch (See Datasheet)", 2 FB (in) "The feedback pin is used for positive output voltage sensing. The R1/R2 voltage divider connected to FB defines Li-Ion float voltage at full charge, or acts as a voltage limiter for NiCd or NiMH applications. FB is the (See Datasheet)", 3 IFB (in) "The current feedback pin is used to sense charging current. It is the input to a current sense amplifier that controls charging current when the battery voltage is below a programmed limit. During constant-current operation, (See Datasheet)", 4 GND (power) "The ground pin is common to both control circuitry and switch current. VC, FB and S/S signals must be Kelvin and connected as close as possible to this pin. The TAB of the R package should also be connected to the power (See Datasheet)", 5 VSW (power) "The switch pin is the collector of the power switch, carrying up to 3A of current with fast rise and fall times. Keep the traces on this pin as short as possible to minimize radiation and voltage spikes. In particular, the (See Datasheet)", 6 S/S (in) "This pin can be used for shutdown and/or synchronization. It is logic level compatible, but can be tied to VIN if desired. It defaults to a high ON state when floated. A logic low state will shut down the charger to a (See Datasheet)", 7 VIN (power) "The input supply pin should be bypassed with a low ESR capacitor located right next to the IC chip. The grounded end of the capacitor must be connected directly to the ground plane to which the TAB is connected."